# Altium schematic symbol library N-MOSFET.SchLib: 1 symbol
Pins are listed as number, name and electrical type; pins without a type are passive.

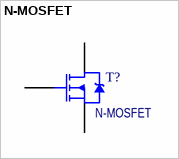
[diagram p0: symbol N-MOSFET]

## N-MOSFET
designator T?
N channel Generic MosFET; Потребление, Вт: 0,0; Назначение: N channel Generic MosFET; Наименование: N-MOSFET
footprint SOT-23; pin to pad D>3 G>1 S>3
pins: D DRAIN, G GATE, S SOURCE